# EAGLE library part SLV6A-FKB (library Z_GessIOMod)
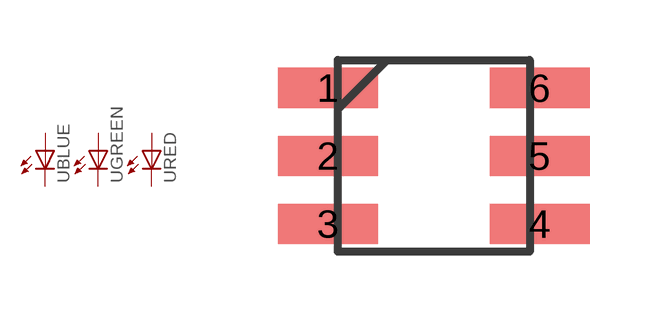
[diagram p15: symbol with the pads of LED5050PACK; footprint LED5050PACK]

Designator prefix -; gates BLUE=LED GREEN=LED RED=LED

## SLV6A-FKB  [LED5050PACK]
1  BLUE:C  pas
2  GREEN:C  pas
3  RED:C  pas
4  RED:A  pas
5  GREEN:A  pas
6  BLUE:A  pas

## Footprint LED5050PACK (pad centres in mm)
1.5W RGB HIGH POWER LED LEDTECH ELECTRONICS CORP. Source: LP2C63-ST-RGB-SR0.SPEC.pdf
smd 2.5 x 1: 1 -2.65,1.7; 2 -2.65,0; 3 -2.65,-1.7; 4 2.65,-1.7; 5 2.65,0; 6 2.65,1.7